# Altium schematic symbol library mthnp3p2.SchLib: 1 symbol
Pins are listed as number, name and electrical type; pins without a type are passive.

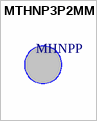
[diagram p0: symbol MTHNP3P2MM]

## MTHNP3P2MM
designator MHNPP, comment Mounting Hole Un-Plated 3.2 mm  (value not drawn)
Mounting Hole Un-Plated 3.2 mm drill hole
footprint MTHNP3P2MM (Mounting hold non-plated, 3.2mm hole)